# Altium schematic symbol library Resistor.SchLib: 141 symbols (part 1 of 4)
Pins are listed as number, name and electrical type; pins without a type are passive.

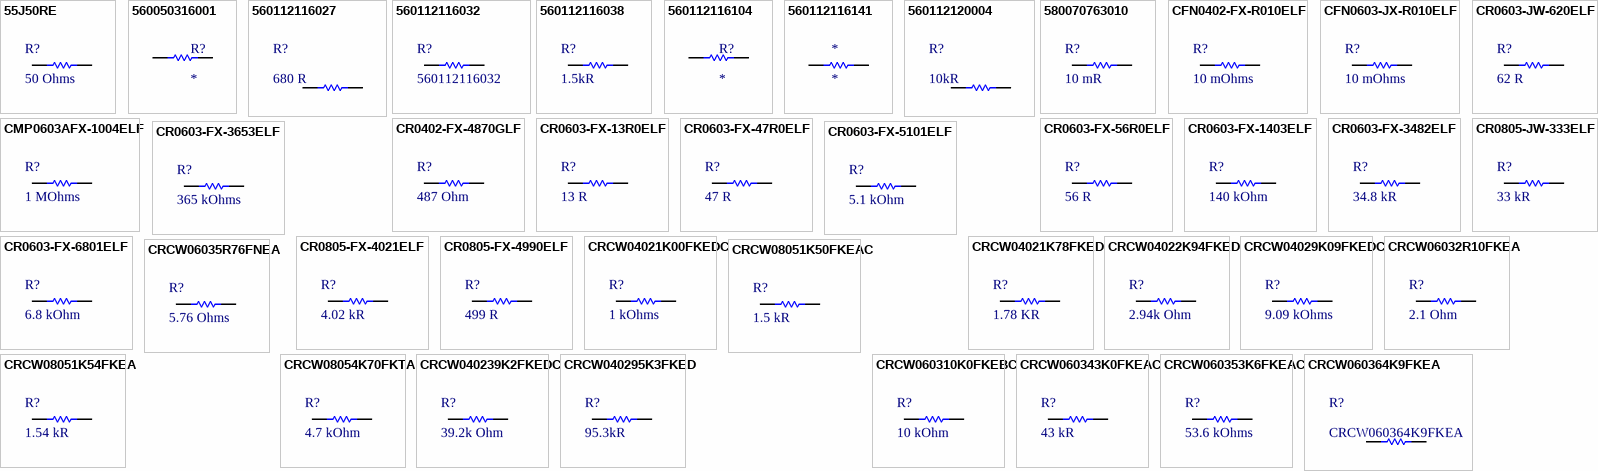
[diagram p0: symbols 55J50RE to CRCW060364K9FKEA]

## 55J50RE
designator R?, comment 50 Ohms
RES PTH 50 OHM 5% 10W Axial; Manufacturer: Ohmite; Part Number: 55J50RE; Temperature Coefficient: 50 PPM / C; Power Rating: 5W; Voltage Rating: 200V; Supplier 1: Mouser; Category: Wirewound Resistors - Through Hole; Price: 1= 0,76, 10= 0,66, 100= 0,459 (USD); Package / Case: Cut Tape; Value: 50 Ohms; Tolerance: 5%; Library Ref: Resistor; Resistor Type: Fixed; Size / Dimension: 21mm/8mm; Supplier Part Number 1: 588-55J50RE; ComponentLink1Description: Mouser Link; ComponentLink1URL: https://br.mouser.com/ProductDetail/Ohmite/55J50RE?qs=NgbZBzc1CyEo25lOn5E67g%3D%3D; ComponentLink2Description: Datasheet; ComponentLink2URL: https://br.mouser.com/datasheet/2/303/res_50-1265362.pdf
footprint RESISTOR_THROUGH_HOLE_2
pins: 1, 2

## 560050316001
designator R?
RES SMD 0.10 OHM 1% 1/4W 0603; Manufacturer: Wurth Electronics; Manufacturer Part Number: 560050316001; Supplier: Digikey; Supplier Part Number: 732-13797-1-ND; RoHS: No; Category: Chip SMD Resistors; Stock: 4204; Pricing: 1=0,54, 10=0,476, 50=0,424, 100=0,386, 250=0,302 (USD); ComponentLink1URL: http://katalog.we-online.de/pbs/datasheet/560050316001.pdf?src-supplier=Digikey; ComponentLink1Description: http://katalog.we-online.de/pbs/datasheet/560050316001.pdf?src-supplier=Digikey; ComponentLink2URL: https://datasheet.octopart.com/560050316001-Wurth-Elektronik-datasheet-168479358.pdf?src-supplier=Newark; ComponentLink2Description: https://datasheet.octopart.com/560050316001-Wurth-Elektronik-datasheet-168479358.pdf?src-supplier=Newark
footprint RESISTOR_0603
pins: 1, 2

## 560112116027
designator R?, comment 680 R
RES SMD 680 OHMS 5% 1/8W 0603; Manufacturer: Wurth Electronics; Manufacturer Part Number: 560112116027; Supplier: Newark; Supplier Part Number: 90AK5321; RoHS: No; Category: Chip SMD Resistors; Stock: 2500; Pricing: 10=0,094, 25=0,079, 50=0,064 (USD)
footprint RESISTOR_0603
pins: 1, 2

## 560112116032
designator R?
RES SMD 1.8K OHM 1% 1/10W 0603; Manufacturer: Wurth Electronics; Supplier: Mouser; Supplier Part Number: 710-560112116032; Part Number: 560112116032; RoHS: No; Category: Chip SMD Resistors; Stock: 9957; Pricing: 1=0,11, 10=0,102, 50=0,058, 100=0,058, 1000=0,039, 10000=0,03 (USD)
footprint RESISTOR_0603
pins: 1, 2

## 560112116038
designator R?, comment 1.5kR
RES SMD 1.5K OHM 1% 1/10W 0603; Manufacturer: Wurth Electronics; Part Number: 560112116038; Supplier: Mouser; Supplier Part Number: 710-560112116038; RoHS: No; Category: Chip SMD Resistors; Stock: 9892; Pricing: 1=0,11, 10=0,102, 50=0,058, 100=0,058, 1000=0,039, 10000=0,03 (USD); Value: 1.5kR
footprint RESISTOR_0603
pins: 1, 2

## 560112116104
designator R?
RES SMD 13K OHM 1% 1/10W 0603; Manufacturer: Wurth Electronics; Manufacturer Part Number: 560112116104; Supplier: Digikey; Supplier Part Number: 732-560112116104CT-ND; RoHS: No; Category: Chip SMD Resistors; Stock: 5000; Pricing: 1=0,1, 50=0,058, 500=0,039, 2500=0,03 (USD)
footprint RESISTOR_0603
pins: 1, 2

## 560112116141
designator *
RES SMD 4.3K OHM 1% 1/10W 0603; Manufacturer: Wurth Electronics; Manufacturer Part Number: 560112116141; Supplier: Digikey; Supplier Part Number: 732-560112116141CT-ND; RoHS: No; Category: Chip SMD Resistors; Stock: 4975; Pricing: 1=0,1, 50=0,058, 500=0,039, 2500=0,03 (USD)
footprint RESISTOR_0603
pins: 1, 2

## 560112120004
designator R?, comment 10kR
RES SMD 10kOHM 1% 1/4W 0805; Manufacturer: Wurth Electronics; Manufacturer Part Number: 560112120004; Supplier: Digikey; Supplier Part Number: 732-560112120004CT-ND; RoHS: No; Category: Chip SMD Resistors; Stock: 4672; Pricing: 1=0,13, 50=0,0712, 500=0,0477, 2500=0,0369 (USD)
footprint RESISTOR_0805
pins: 1, 2

## 580070763010
designator R?, comment 10 mR
RES SMD 10m Ohm 1% 2W 2512; Manufacturer: Wurth Elektronik; Temperature Coefficient: 100 PPM / C; Product Category: Current Sense Resistors - SMD; Value: 10 mR; Power Rating: 2 W; Tolerance: 1 %; Case Code - in: 2512; Case Code - mm: 6331; Minimum Operating Temperature:: - 55 C; Maximum Operating Temperature: + 155 C
footprint WSHM2818R0100FEA (Chip Resistor, 2-Leads, Body 7,10x4,60mm, IPC Medium Density)
footprint RES_WURTH_2512 (Chip Resistor, 2-Leads, Body 6,30x3,10mm, IPC Medium Density)
pins: 1, 2

## CFN0402-FX-R010ELF
designator R?, comment 10 mOhms
RES SMD 10m OHM 1% 1/4W 0402; Manufacturer: Bourns; Part Number: CFN0402-FX-R010ELF; Temperature Coefficient: 100 PPM / C; Power Rating: 1/4 W (250 mW); Supplier 1: Mouser; Category: Current Sense Resistors - SMD; Price: 1= 0,57, 10= 0,272, 100= 0,181 (USD); Package / Case: 0402 (1005 metric); Operating Temperature: -55C ~ +155C; Value: 10 mOhms; Tolerance: 1%; Voltage Rating: -; Library Ref: Resistor; Resistor Type: Fixed; Size / Dimension: 1mm x 0.5mm; Supplier Part Number 1: 652-CFN0402-FX-R010E; ComponentLink1Description: Mouser Link; ComponentLink1URL: https://br.mouser.com/ProductDetail/Bourns/CFN0402-FX-R010ELF?qs=iLbezkQI%252Bsjx0oxCU2UO7g%3D%3D; ComponentLink2Description: Datasheet; ComponentLink2URL: https://br.mouser.com/datasheet/2/54/cfn-1955410.pdf
footprint RESISTOR_0402
pins: 1, 2

## CFN0603-JX-R010ELF
designator R?, comment 10 mOhms
RES SMD 10m Ohms 5% 1/2W 0603; Manufacturer: Bourns; Part Number: CFN0603-JX-R010ELF; Tolerance: 1%; Temperature Coefficient: 100 PPM/C; Power Rating: 100 mW (1/10W); Voltage Rating: 75V; Supplier 1: Mouser; Category: Current Sense Resistors - SMD; Price: 1=0,39, 10=0,304, 100=0,128 (USD); Package / Case: 0603; Operating Temperature: - 55ºC ~ 155ºC; Value: 10 mOhms; Library Ref: Resistor; Resistor Type: Fixo; Size / Dimension: 3,2 mm L x  1,6 mm W x  0,5 mm H; Supplier Part Number 1: 652-CFN0603-JX-R010ELF; ComponentLink1Description: Mouser Link; ComponentLink1URL: https://br.mouser.com/ProductDetail/Bourns/CFN0603-JX-R010ELF?qs=sGAEpiMZZMvdGkrng054tx4c7YuULGmGVIzC8kOF4lpjbrLExPeakg%3D%3D; ComponentLink2Description: Datasheet Link; ComponentLink2URL: https://br.mouser.com/datasheet/2/54/cfn-1955410.pdf
footprint RESISTOR_0603
pins: 1, 2

## CMP0603AFX-1004ELF
designator R?, comment 1 MOhms
RES SMD 1M OHM 1% 1/4W 0603 TC100; Manufacturer: Bourns; Part Number: CMP0603AFX-1004ELF; Temperature Coefficient: 100 PPM / C; Power Rating: 250 mW (1/4 W); Voltage Rating: 75 V; Supplier 1: Bourns; Category: Thick Film Resistors; Package / Case: 0603; Operating Temperature: -55 to +155 °C; Value: 1 MOhms; Tolerance: 1%; Mouser Link: https://br.mouser.com/ProductDetail/Bourns/CMP0603AFX-1004ELF?qs=sGAEpiMZZMvdGkrng054twKDKoBh%252Bscn0Cfck9q6avmCcr%2FCUfL8cg%3D%3D; Datasheet: https://br.mouser.com/datasheet/2/54/cmp_a-1869326.pdf; Resistor Type: Thick Film Resistors; Size / Dimension: 1,6x0,8x0,4(mm); ComponentLink1Description: Mouser; ComponentLink1URL: https://br.mouser.com/ProductDetail/Bourns/CMP0603AFX-1004ELF?qs=sGAEpiMZZMvdGkrng054twKDKoBh%252Bscn0Cfck9q6avmCcr%2FCUfL8cg%3D%3D; ComponentLink2Description: Datasheet; ComponentLink2URL: https://br.mouser.com/datasheet/2/54/cmp_a-1869326.pdf
footprint RESISTOR_0603
pins: 1, 2

## CR0402-FX-4870GLF
designator R?, comment 487 Ohm
RES SMD 487 OHM 1% 1/16 W 0402; Manufacturer: Bourns; Part Number: CR0402-FX-4870GLF; Temperature Coefficient: 100 PPM/C; Power Rating: 1/16 W; Voltage Rating: 50 V; Library Control - Person that did the Last Update Footprint: Breno (Omega); Supplier 1: Mouser; Category: Thick Film Resistor; Price: 1 = 0.14, 10 = 0.058, 100 = 0.033(USD); Package / Case: 0402; Operating Temperature: -55°C ~ 155°C; Value: 487 Ohm; Tolerance: 1%; Library Ref: Resistor; Resistor Type: Fixo; Size / Dimension: 0.5mm x 1mm x 0.35mm; Supplier Part Number 1: 652-CR0402-FX4870GLF; Library Control - Person that did the Last Update Schematic: Breno (Omega); ComponentLink1Description: Mouser Link; ComponentLink1URL: https://br.mouser.com/ProductDetail/Bourns/CR0402-FX-4870GLF?qs=%2Fha2pyFadui8yxbHVz0QKuAN1WV%252BcTXMEkWPBdAvoazSjBPgZsW2cWgt0xqYQEMx; ComponentLink2Description: Datasheet; ComponentLink2URL: https://br.mouser.com/datasheet/2/54/cr-1858361.pdf
footprint RESISTOR_0402
pins: 1, 2

## CR0603-FX-13R0ELF
designator R?, comment 13 R
RES SMD 13 OHMS 1% 1/10W 0603; Manufacturer: Bourns; Part Number: CR0603-FX-13R0ELF; Temperature Coefficient: 100 PPM / C; Power Rating: 100 mW (1/10 W); Voltage Rating: 50 V; Library Control - Checked Footprint: Yes; Library Control - Person that Checked Footprint: Raquel; Supplier 1: Mouser; Category: Thick Film Resistors - SMD; Price: 1=0,10, 10=0,034, 100=0,017(USD); Package / Case: 0603 (1608 Metric); Operating Temperature: - 55°C ~ 155°C; Value: 13 R; Tolerance: 1 %; Library Ref: Resistor; Resistor Type: Fixo; Size / Dimension: 1,60 L x 0,80 W x 0,45 H; Supplier Part Number 1: 652-CR0603-FX-13R0ELF; Library Control - Checked Schematic: Yes; Library Control - Last Update: 12/10/2021; Library Control - Person that Checked Schematic: Raquel; ComponentLink1Description: Mouser Link; ComponentLink1URL: https://br.mouser.com/ProductDetail/Bourns/CR0603-FX-13R0ELF?qs=%2Fha2pyFadugVmr2gairtN0u0VcidQZ%252B4KivBBZASfBI4LKJiCJr4Bg%3D%3D; ComponentLink2Description: Datasheet; ComponentLink2URL: https://br.mouser.com/datasheet/2/54/crxxxxx-1858361.pdf
footprint RESISTOR_0603
pins: 1, 2

## CR0603-FX-47R0ELF
designator R?, comment 47 R
RES SMD 47 OHM 1% 1/10W 0603; Manufacturer: Bourns; Part Number: CR0603-FX-47R0ELF; Temperature Coefficient: 100 PPM / C; Power Rating: 100 mW (1/10 W); Voltage Rating: 50 V; Library Control - Checked Footprint: Yes; Library Control - Person that Checked Footprint: Nikaum; Library Control - Person that Checked Schematic: Guilherme; Library Control - Person that did the Last Update Footprint: Nicolas; Supplier 1: Mouser; Category: Thick Film Resistors; Price: 1=0,10, 10=0,019, 100=0,008 (USD); Package / Case: 0603 (1608 Metric); Operating Temperature: - 55°C ~ 155°C; Value: 47 R; Tolerance: 1 %; Library Ref: Resistor; Resistor Type: Fixo; Size / Dimension: 1,60 L x 0,80 W x 0,45 H; Supplier Part Number 1: 652-CR0603FX-47R0ELF; Library Control - Checked Schematic: Yes; Library Control - Last Update: 27/06/2021 20:37; Library Control - Person that did the Last Update Schematic: Nikaum; ComponentLink1Description: Mouser Link; ComponentLink1URL: https://br.mouser.com/ProductDetail/Bourns/CR0603-FX-47R0ELF?qs=0nF2VnfAjXlzDgnPATTkTA%3D%3D; ComponentLink2Description: Datasheet; ComponentLink2URL: https://br.mouser.com/datasheet/2/54/crxxxxx-1858361.pdf
footprint RESISTOR_0603
pins: 1, 2

## CR0603-FX-56R0ELF
designator R?, comment 56 R
RES SMD 56 OHMS 1% 1/10W 0603; Manufacturer: Bourns; Part Number: CR0603-FX-56R0ELF; Temperature Coefficient: 100 PPM / C; Power Rating: 100 mW (1/10 W); Voltage Rating: 50 V; Library Control - Checked Footprint: Yes; Library Control - Person that Checked Footprint: Nikaum; Library Control - Person that did the Last Update Footprint: Nicolas; Supplier 1: Mouser; Category: Thick Film Resistors - SMD; Price: 1=0,10, 10=0,019, 100=0,011(USD); Package / Case: 0603 (1608 Metric); Operating Temperature: - 55°C ~ 155°C; Value: 56 R; Tolerance: 1 %; Library Ref: Resistor; Resistor Type: Fixo; Size / Dimension: 1,60 L x 0,80 W x 0,45 H; Supplier Part Number 1: 652-CR0603FX-56R0ELF; Library Control - Checked Schematic: Yes; Library Control - Last Update: 27/06/2021 20:52; Library Control - Person that Checked Schematic: Nikaum; Library Control - Person that did the Last Update Schematic: Nikaum; ComponentLink1Description: Mouser Link; ComponentLink1URL: https://br.mouser.com/ProductDetail/Bourns/CR0603-FX-56R0ELF?qs=0nF2VnfAjXkVwSNglvrNkw%3D%3D; ComponentLink2Description: Datasheet; ComponentLink2URL: https://br.mouser.com/datasheet/2/54/crxxxxx-1858361.pdf
footprint RESISTOR_0603
pins: 1, 2

## CR0603-FX-1403ELF
designator R?, comment 140 kOhm
RES SMD 140 kOHM 1% 1/10W 0603; Manufacturer: Bourns; Part Number: CR0603-FX-1403ELF; Temperature Coefficient: 100 PPM / C; Power Rating: 125 mW (1/8 W); Voltage Rating: 50 V; Supplier 1: Mouser; Category: Thick Film Resistors - SMD; Price: 1=0,10, 10=0,036, 100=0,013 1000=0,008 (USD); Package / Case: 0603 (1608 Metric); Operating Temperature: - 55ºC ~ 155ºC; Value: 140 kOhm; Tolerance: 1 %; Library Ref: Resistor; Resistor Type: Fixo; Size / Dimension: 2 mm L x  1.25 mm W x  0.5 mm H; Supplier Part Number 1: 652-CR0603FX-1403ELF; ComponentLink1Description: Mouser Link; ComponentLink1URL: https://br.mouser.com/ProductDetail/Bourns/CR0603-FX-1403ELF?qs=sGAEpiMZZMtlubZbdhIBIJoX7P5Bll7agXTMqD6Yn9M%3D; ComponentLink2Description: Datasheet Link; ComponentLink2URL: https://br.mouser.com/datasheet/2/54/cr-1858361.pdf
footprint RESISTOR_0603
pins: 1, 2

## CR0603-FX-3482ELF
designator R?, comment 34.8 kR
RES SMD 34.8KOHM 1% 1/10W 0603; Manufacturer: Bourns; Part Number: CR0603-FX-3482ELF; Temperature Coefficient: 100 PPM / C; Power Rating: 100mW (1/10 W); Voltage Rating: 50 V; Library Control - Checked Footprint: Yes; Library Control - Person that Checked Footprint: Nikaum; Library Control - Person that did the Last Update Footprint: Nicolas; Supplier 1: Mouser; Category: Thick Film Resistors - SMD; Price: 1 = 0,10, 10 = 0,016, 100 = 0,009 (USD); Package / Case: 0603 (1608 metric); Operating Temperature: - 55 C ~155 C; Value: 34.8 kR; Tolerance: 1 %; Library Ref: Resistor; Resistor Type: Fixo; Size / Dimension: 1,60 L x 0,80 W x 0,45 H; Supplier Part Number 1: 652-CR0603FX-3482ELF; Library Control - Checked Schematic: Yes; Library Control - Last Update: 27/06/2021 21:03; Library Control - Person that Checked Schematic: Nikaum; Library Control - Person that did the Last Update Schematic: Nikaum; ComponentLink1Description: Mouser Link; ComponentLink1URL: https://br.mouser.com/ProductDetail/Bourns/CR0603-FX-3482ELF?qs=CCIlxZRRv7iML3EEjn8ktw==; ComponentLink2Description: Datasheet Link; ComponentLink2URL: https://br.mouser.com/datasheet/2/54/crxxxxx-1858361.pdf
footprint RESISTOR_0603
pins: 1, 2

## CR0603-FX-3653ELF
designator R?, comment 365 kOhms
RES SMD 365K OHM 1% 1/10W 0603; Manufacturer: BOURNS; Part Number: RC0201FR-07365KL; Power Rating: 100 mW (1/10 W); Voltage Rating: 50v; Library Control - Person that Checked Footprint: Raquel; Supplier 1: Mouser; Category: Thick Film Resistors - SMD; Price: 1= 0,10, 10= 0,034, 100= 0,017 (USD); Package / Case: 0603 (1608 metric); Operating Temperature: -55C ~ +125C; Value: 365 kOhms; Tolerance: 1%; Library Ref: Resistor; Resistor Type: Thick Film; Size / Dimension: 0.45mm x 1.6mm x 0.8mm (HxLxW); Supplier Part Number 1: 652-CR0603-FX-3653ELF; Library Control - Last Update: 12/10/2021; ComponentLink1Description: Mouser Link; ComponentLink1URL: https://br.mouser.com/ProductDetail/Bourns/CR0603-FX-3653ELF?qs=CCIlxZRRv7jw7wJdLGvO9Q%3D%3D; ComponentLink2Description: Datasheet; ComponentLink2URL: https://br.mouser.com/datasheet/2/54/crxxxxx-1858361.pdf
footprint RESISTOR_0603
pins: 1, 2

## CR0603-FX-5101ELF
designator R?, comment 5.1 kOhm
RES SMD 5.1 kOHM 1% 1/10W 0603; Manufacturer: Bourns; Part Number: CR0603-FX-5101ELF; Temperature Coefficient: 100 PPM / C; Power Rating: 100mW (1/10 W); Voltage Rating: 50V; Supplier 1: Mouser; Category: Thick Film Resistors - SMD; Price: 1 = 0,10, 10 = 0,032, 100 = 0,013 (USD); Package / Case: 0603 (1608 metric); Operating Temperature: - 55 C~155 C; Value: 5.1 kOhm; Tolerance: 1 %; Library Ref: Resistor; Resistor Type: Fixo; Size / Dimension: 1,60 L x 0,80 W x 0,45 H; Supplier Part Number 1: 652-CR0603FX-5101ELF; ComponentLink1Description: Mouser Link; ComponentLink1URL: https://br.mouser.com/ProductDetail/Bourns/CR0603-FX-5101ELF?qs=sGAEpiMZZMtlubZbdhIBIMinHFTiNSf6ytasqlOqOko%3D; ComponentLink2Description: Datasheet Link; ComponentLink2URL: https://br.mouser.com/datasheet/2/54/cr-1858361.pdf
footprint RESISTOR_0603
pins: 1, 2

## CR0603-FX-6801ELF
designator R?, comment 6.8 kOhm
RES SMD 6.8K OHM 1% 1/10W 0603; Manufacturer: Bourns; Part Number: CR0603-FX-6801ELF; Temperature Coefficient: 100ppm/°C; Power Rating: 100mW; Voltage Rating: 50V; Supplier 1: Mouser; Category: Chip SMD Resistors; Price: 1=0,10000, 10=0,01800, 100=0,00600 (USD); Package / Case: 0603 (1608 Metric); Operating Temperature: -55°C ~ 155°C; Value: 6.8 kOhm; Tolerance: 1%; Library Ref: Resistor; Resistor Type: Thick Film; Size / Dimension: 1.6 mm L x  0.8 mm W x  0.45 mm H; Supplier Part Number 1: 652-CR0603FX-6801ELF; ComponentLink1Description: Datasheet; ComponentLink1URL: https://br.mouser.com/datasheet/2/54/cr-1858361.pdf; ComponentLink2Description: Mouser Link; ComponentLink2URL: https://br.mouser.com/ProductDetail/Bourns/CR0603-FX-6801ELF?qs=sGAEpiMZZMtlubZbdhIBIMinHFTiNSf6XYwxKUI8ZAU%3D
footprint RESISTOR_0603
pins: 1, 2

## CR0603-JW-620ELF
designator R?, comment 62 R
RES SMD 62 OHM 5% 1/10W 0603; Manufacturer: Bourns; Part Number: CR0603-JW-620ELF; Temperature Coefficient: 200 PPM / C; Power Rating: 100mW (1/10 W); Voltage Rating: 50 V; Library Control - Checked Footprint: Yes; Library Control - Person that Checked Footprint: Nikaum; Library Control - Person that did the Last Update Footprint: Nicolas; Supplier 1: Mouser; Category: Thick Film Resistors - SMD; Price: 1 = 0,10, 10 = 0,014, 100 = 0,009 (USD); Package / Case: 0603 (1608 metric); Operating Temperature: - 55 C~155 C; Value: 62 R; Tolerance: 5 %; Library Ref: Resistor; Resistor Type: Fixo; Size / Dimension: 1,60 L x 0,80 W x 0,45 H; Supplier Part Number 1: 652-CR0603-JW-620ELF; Library Control - Checked Schematic: Yes; Library Control - Last Update: 27/06/2021 21:00; Library Control - Person that Checked Schematic: Nikaum; Library Control - Person that did the Last Update Schematic: Nikaum; ComponentLink1Description: Mouser Link; ComponentLink1URL: https://br.mouser.com/ProductDetail/Bourns/CR0603-JW-620ELF?qs=fr5M0h%252BG8GYj3p8lbTv0Tg==; ComponentLink2Description: Datasheet Link; ComponentLink2URL: https://br.mouser.com/datasheet/2/54/crxxxxx-1858361.pdf
footprint RESISTOR_0603
pins: 1, 2

## CR0805-FX-4021ELF
designator R?, comment 4.02 kR
RES SMD 4.02 K OHM 1% 1/8 W 0805; Manufacturer: Bourns; Part Number: CR0805-FX-4021ELF; Temperature Coefficient: 100 PPM / C; Power Rating: 125 mW (1/8 W); Voltage Rating: 150 V; Library Control - Checked Footprint: Yes; Library Control - Person that Checked Footprint: Nikaum; Library Control - Person that did the Last Update Footprint: Nicolas; Supplier 1: Mouser; Category: Thick Film Resistors - SMD; Price: 1=0,10, 10=0,024, 100=0,014 (USD); Package / Case: 0805 (2012 Metric); Operating Temperature: - 55°C ~ 155°C; Value: 4.02 kR; Tolerance: 1 %; Library Ref: Resistor; Resistor Type: Fixo; Size / Dimension: 2,00 L x 1,25 W x 0,50 H; Supplier Part Number 1: 652-CR0805FX-4021ELF; Library Control - Checked Schematic: Yes; Library Control - Last Update: 27/06/2021 20:55; Library Control - Person that Checked Schematic: Nikaum; Library Control - Person that did the Last Update Schematic: Nikaum; ComponentLink1Description: Mouser Link; ComponentLink1URL: https://br.mouser.com/ProductDetail/Bourns/CR0805-FX-4021ELF?qs=TYKCbaKwe1DapcPpjJ90lg%3D%3D; ComponentLink2Description: Datasheet; ComponentLink2URL: https://br.mouser.com/datasheet/2/54/crxxxxx-1858361.pdf
footprint RESISTOR_0805
pins: 1, 2

## CR0805-FX-4990ELF
designator R?, comment 499 R
RES SMD 499 OHM 1% 1/8W 0805; Manufacturer: Bourns; Part Number: CR0805-FX-4990ELF; Temperature Coefficient: 100 PPM / C; Power Rating: 125 mW (1/8 W); Voltage Rating: 150 V; Library Control - Checked Footprint: No; Library Control - Checked Schematic: Yes; Library Control - Person that Checked Schematic: Guilherme; Supplier 1: Mouser; Category: Thick Film Resistors - SMD; Price: 1=0,10 10=0,024, 100=0,014 (USD); Package / Case: 0805 (2012 Metric); Operating Temperature: - 55°C ~ 155°C; Value: 499 R; Tolerance: 1 %; Library Ref: Resistor; Resistor Type: Fixed; Size / Dimension: 2,00 L x 1,25 W x 0,50 H; Supplier Part Number 1: 652-CR0805FX-4990ELF; Library Control - Last Update: 26/06/2021 16:53; ComponentLink1Description: Mouser Link; ComponentLink1URL: https://br.mouser.com/ProductDetail/Bourns/CR0805-FX-4990ELF?qs=sGAEpiMZZMukHu%252BjC5l7YSNvqakVQFVliZhrfH2%252B8mU%3D; ComponentLink2Description: Datasheet; ComponentLink2URL: https://br.mouser.com/datasheet/2/54/crxxxxx-1858361.pdf
footprint RESISTOR_0805
pins: 1, 2

## CR0805-JW-333ELF
designator R?, comment 33 kR
RES SMD 33K OHM 5% 1/8W 0805; Manufacturer: Bourns; Part Number: CR0805-JW-333ELF; Temperature Coefficient: 200 PPM / C; Power Rating: 125 mW (1/8 W); Voltage Rating: 150 V; Library Control - Checked Footprint: Yes; Library Control - Person that Checked Footprint: Nikaum; Library Control - Person that did the Last Update Footprint: Nicolas; Supplier 1: Mouser; Category: Thick Film Resistors; Price: 1=0,10, 10=0,023, 100=0,013 (USD); Package / Case: 0805 (2012 Metric); Operating Temperature: - 55°C ~ 155°C; Value: 33 kR; Tolerance: 5 %; Library Ref: Resistor; Resistor Type: Fixo; Size / Dimension: 2,00 L x 1,25 W x 0,50 H; Supplier Part Number 1: 652-CR0805JW-333ELF; Library Control - Checked Schematic: Yes; Library Control - Last Update: 27/06/2021 20:54; Library Control - Person that Checked Schematic: Nikaum; Library Control - Person that did the Last Update Schematic: Nikaum; ComponentLink1Description: Mouser Link; ComponentLink1URL: https://br.mouser.com/ProductDetail/Bourns/CR0805-JW-333ELF?qs=%252BcBkmVQIZ2Q1P1gcG8tMAQ%3D%3D; ComponentLink2Description: Datasheet; ComponentLink2URL: https://br.mouser.com/datasheet/2/54/crxxxxx-1858361.pdf
footprint RESISTOR_0805
pins: 1, 2

## CRCW04021K00FKEDC
designator R?, comment 1 kOhms
RES SMD 1K OHM 1% 1/16W 0402; Manufacturer: Vishay; Part Number: CRCW04021K00FKEDC; Temperature Coefficient: 100 PPM / C; Power Rating: 62.5 mW (1/16 W); Voltage Rating: 50V; Library Control - Checked Footprint: Yes; Library Control - Person that Checked Footprint: Nícolas; Supplier 1: Mouser; Category: Thick Film Resistors - SMD; Price: 1 = 0.10, 10 = 0.033, 100 = 0.014 (USD); Package / Case: 0402 (1005 metric); Operating Temperature: -55C ~ +155C; Value: 1 kOhms; Tolerance: 1%; Library Ref: Resistor; Resistor Type: Thick FIlm; Size / Dimension: 0.35mm x 1mm x 0.5mm (HxLxW); Supplier Part Number 1: 71-CRCW04021K00FKEDC; Library Control - Checked Schematic: Yes; Library Control - Last Project that Used: -; Library Control - Last Update: 08/09/2021; Library Control - Person that Checked Schematic: Nícolas; Library Control - Person that did the Last Update Footprint: Nícolas; Library Control - Person that did the Last Update Schematic: Nícolas; ComponentLink1Description: Mouser Link; ComponentLink1URL: https://br.mouser.com/ProductDetail/Vishay-Dale/CRCW04021K00FKEDC?qs=E3Y5ESvWgWMj5mY%252BhDIyqg%3D%3D; ComponentLink2Description: Datasheet; ComponentLink2URL: https://br.mouser.com/datasheet/2/427/VISH_S_A0003599164_1-2569050.pdf
footprint RESISTOR_0402
pins: 1, 2

## CRCW04021K78FKED
designator R?, comment 1.78 KR
RES SMD 1.78K Ohms 1% 1/16W 0402; Manufacturer: Vishay; Part Number: CRCW04021K78FKED; Temperature Coefficient: 100 PPM / C; Power Rating: 62.5 mW (1/16 W); Voltage Rating: 50 V; Library Control - Checked Footprint: Guilherme; Library Control - Last Project that Used: Fuijin-MK1; Supplier 1: Mouser; Category: Thick Film Resistors - SMD; Price: 1=0,10, 10=0,042, 100=0,017 (USD); Package / Case: 0402 (1005 Metric); Operating Temperature: - 55ºC ~ 155ºC; Value: 1.78 KR; Tolerance: 1%; Library Ref: Resistor; Resistor Type: Fixo; Size / Dimension: 1 mm L x  0,5 mm W x  0,35 mm H; Supplier Part Number 1: 71-CRCW0402-1.78K-E3; Library Control - Checked Schematic: Guilherme; Library Control - Last Update: 31/10/21 17:08; Library Control - Person that Checked Footprint: Guilherme; Library Control - Person that Checked Schematic: Guilherme; Library Control - Person that did the Last Update Footprint: Guilherme; Library Control - Person that did the Last Update Schematic: Guilherme; ComponentLink1Description: Mouser Link; ComponentLink1URL: https://br.mouser.com/ProductDetail/Vishay-Dale/CRCW04021K78FKED?qs=YX%252BK5oaHNYopJc2s6qxVSA%3D%3D; ComponentLink2Description: Datasheet Link; ComponentLink2URL: https://www.vishay.com/doc?20035
footprint RESISTOR_1005
pins: 1, 2

## CRCW04022K94FKED
designator R?, comment 2.94k Ohm
RES SMD 2.94k OHM 1% 1/16 W 0402; Manufacturer: Vishay / Dale; Part Number: CRCW04022K94FKED; Temperature Coefficient: 100 PPM/C; Power Rating: 1/16 W; Voltage Rating: 50 V; Library Control - Person that did the Last Update Footprint: Breno (Omega); Supplier 1: Mouser; Category: Thick Film Resistor; Price: 1 = 0.10, 10 = 0.042, 100 = 0.017(USD); Package / Case: 0402; Operating Temperature: -55°C ~ 155°C; Value: 2.94k Ohm; Tolerance: 1%; Library Ref: Resistor; Resistor Type: Fixo; Size / Dimension: 0.5mm x 1mm x 0.35mm; Supplier Part Number 1: 71-CRCW0402-2.94K-E3; Library Control - Person that did the Last Update Schematic: Breno (Omega); ComponentLink1Description: Mouser Link; ComponentLink1URL: https://br.mouser.com/ProductDetail/Vishay-Dale/CRCW04022K94FKED?qs=hD42E%2F8yzjpGZRqjVZecEg%3D%3D; ComponentLink2Description: Datasheet; ComponentLink2URL: https://br.mouser.com/datasheet/2/427/dcrcwe3-1762152.pdf
footprint RESISTOR_0402
pins: 1, 2

## CRCW04029K09FKEDC
designator R?, comment 9.09 kOhms
RES SMD 9.09K Ohms 1% 1/16W 0402; Manufacturer: Vishay / Dale; Part Number: CRCW04029K09FKEDC; Temperature Coefficient: 100 PPM / C; Power Rating: 62.5 mW (1/16 W); Voltage Rating: 50V; Library Control - Person that Checked Footprint: Firme; Supplier 1: Mouser; Category: Thick Film Resistors - SMD; Price: 1= 0,10, 10= 0,137, 100= 0,034 (USD); Package / Case: 0402 (1005 metric); Operating Temperature: -55C ~ +155C; Tolerance: 1%; Library Ref: Resistor; Resistor Type: Thick FIlm; Size / Dimension: 0.35mm x 1mm x 0.5mm (HxLxW); Supplier Part Number 1: 71-CRCW04029K09FKEDC; Library Control - Last Update: 16/08/2022 15:22; Library Control - Person that Checked Schematic: Firme; Library Control - Person that did the Last Update Footprint: Firme; Library Control - Person that did the Last Update Schematic: Firme; ComponentLink1Description: Mouser Link; ComponentLink1URL: https://br.mouser.com/ProductDetail/Vishay-Dale/CRCW04029K09FKEDC?qs=E3Y5ESvWgWPGRVga7cm29A%3D%3D; ComponentLink2Description: Datasheet; ComponentLink2URL: https://br.mouser.com/datasheet/2/427/crcwce3-1762584.pdf; Value: 9.09 kOhms
footprint RESISTOR_0402
pins: 1, 2

## CRCW06032R10FKEA
designator R?, comment 2.1 Ohm
RES SMD 2.1 OHM 1% 1/10 W 0603; Manufacturer: Vishay / Dale; Part Number: CRCW06032R10FKEA; Temperature Coefficient: 100 PPM/C; Power Rating: 1/10 W; Voltage Rating: 75V; Library Control - Person that did the Last Update Footprint: Breno (Omega); Supplier 1: Mouser; Category: Thick Film Resistor; Price: 1 = 0.12, 10 = 0.058, 100 = 0.026(USD); Package / Case: 0603; Operating Temperature: -55°C ~ 155°C; Value: 2.1 Ohm; Tolerance: 1%; Library Ref: Resistor; Resistor Type: Fixo; Size / Dimension: 0.85mm x 1.55mm x 0.45mm; Supplier Part Number 1: 71-CRCW06032R10FKEA; Library Control - Person that did the Last Update Schematic: Breno (Omega); ComponentLink1Description: Mouser Link; ComponentLink1URL: https://br.mouser.com/ProductDetail/Vishay-Dale/CRCW06032R10FKEA?qs=DyUWGjl%252BcVuVZspRNQ%252BnNQ%3D%3D; ComponentLink2Description: Datasheet; ComponentLink2URL: https://br.mouser.com/datasheet/2/427/dcrcwe3-1762152.pdf
footprint RESISTOR_0603
pins: 1, 2

## CRCW06035R76FNEA
designator R?, comment 5.76 Ohms
RES SMD 5.76ohms 1% 1/10watt 0603; Manufacturer: Vishay / Dale; Part Number: CRCW06035R76FNEA; Temperature Coefficient: 200 PPM / C; Power Rating: 100mW (1/10 W); Voltage Rating: 75 V; Library Control - Checked Footprint: Yes; Library Control - Person that Checked Footprint: Firme; Supplier 1: Mouser; Category: Thick Film Resistors - SMD; Price: 1 = 0,21, 10 = 0,04, 100 = 0,033(USD); Package / Case: 0603 (1608 metric); Operating Temperature: - 55 C~155 C; Value: 5.76 Ohms; Tolerance: 1 %; Library Ref: Resistor; Resistor Type: Fixo; Size / Dimension: 1,55 L x 0,85 W x 0,45 H; Supplier Part Number 1: 71-CRCW06035R76FNEA; Library Control - Checked Schematic: Yes; Library Control - Last Update: 16/08/2022 15;20; Library Control - Person that Checked Schematic: Firme; Library Control - Person that did the Last Update Footprint: Firme; Library Control - Person that did the Last Update Schematic: Firme; ComponentLink1Description: Mouser Link; ComponentLink1URL: https://br.mouser.com/ProductDetail/Vishay-Dale/CRCW06035R76FNEA?qs=P6ImCWcZKGAhuQi1wdyD9w%3D%3D; ComponentLink2Description: Datasheet Link; ComponentLink2URL: https://br.mouser.com/datasheet/2/427/dcrcwe3-1762152.pdf
footprint RESISTOR_0603
pins: 1, 2

## CRCW08051K50FKEAC
designator R?, comment 1.5 kR
RES SMD 1.5K OHM 1% 1/8W 0805; Manufacturer: Vishay / Dale; Part Number: CRCW08051K50FKEAC; Temperature Coefficient: 100 PPM / C; Power Rating: 125 mW (1/8 W); Voltage Rating: 150 V; Library Control - Checked Footprint: Yes; Library Control - Person that Checked Footprint: Nikaum; Library Control - Person that did the Last Update Footprint: Nicolas; Supplier 1: Mouser; Category: Thick Film Resistors - SMD; Price: 1=0,10, 10=0,059, 100=0,024 (USD); Package / Case: 0805 (2012 Metric); Operating Temperature: -55 C ~ 155 C; Value: 1.5 kR; Tolerance: 1 %; Library Ref: Resistor; Resistor Type: Fixo; Size / Dimension: 2,00 L x 1,25 W x 0,45 H; Supplier Part Number 1: 71-CRCW08051K50FKEAC; Library Control - Checked Schematic: Yes; Library Control - Last Update: 27/06/2021 20:45; Library Control - Person that Checked Schematic: Nikaum; Library Control - Person that did the Last Update Schematic: Nikaum; ComponentLink1Description: Mouser Link; ComponentLink1URL: https://br.mouser.com/ProductDetail/Vishay-Dale/CRCW08051K50FKEAC?qs=E3Y5ESvWgWMwo6R2oqPQ9Q%3D%3D; ComponentLink2Description: Datasheet; ComponentLink2URL: https://br.mouser.com/datasheet/2/427/crcwce3-1762584.pdf
footprint RESISTOR_0805
pins: 1, 2

## CRCW08051K54FKEA
designator R?, comment 1.54 kR
RES SMD 1.54K OHM 1% 1/8W 0805; Manufacturer: Vishay / Dale; Part Number: CRCW08051K54FKEA; Temperature Coefficient: 100 PPM / C; Power Rating: 125mW (1/8 W); Voltage Rating: 150 V; Library Control - Checked Footprint: Yes; Library Control - Person that Checked Footprint: Nikaum; Library Control - Person that did the Last Update Footprint: Nicolas; Supplier 1: Mouser; Category: Thick Film Resistors - SMD; Price: 1 = 0,18, 10 = 0,065, 100 = 0,027 (USD); Package / Case: 0805 (2012 metric); Operating Temperature: - 55 C~155 C; Value: 1.54 kR; Tolerance: 1 %; Library Ref: Resistor; Resistor Type: Fixo; Size / Dimension: 2,00 L x 1,25 W x 0,45 H; Supplier Part Number 1: 71-CRCW08051K54FKEA; Library Control - Checked Schematic: Yes; Library Control - Last Update: 27/06/2021 21:31; Library Control - Person that Checked Schematic: Nikaum; Library Control - Person that did the Last Update Schematic: Nikaum; ComponentLink1Description: Mouser Link; ComponentLink1URL: https://br.mouser.com/ProductDetail/Vishay-Dale/CRCW08051K54FKEA?qs=1CkV0QOCgMpi10m9FUA8%2Fw%3D%3D; ComponentLink2Description: Datasheet Link; ComponentLink2URL: https://br.mouser.com/datasheet/2/427/dcrcwe3-1762152.pdf
footprint RESISTOR_0805
pins: 1, 2

## CRCW08054K70FKTA
designator R?, comment 4.7 kOhm
RES SMD 4.7 kOhm 1% 1/8W 0805; Manufacturer: Yageo; Part Number: CRCW08054K70FKTA; Temperature Coefficient: 100 PPM / C; Power Rating: 125 mW (1/8 W); Voltage Rating: 150 V; Supplier 1: Mouser; Category: Thick Film Resistors - SMD; Price: 1=0,1, 10=0,04, 100=0,016 (USD); Package / Case: 0805 (2012 Metric); Operating Temperature: - 55ºC ~ 155ºC; Value: 4.7 kOhm; Tolerance: 1 %; Library Ref: Resistor; Resistor Type: Fixo; Size / Dimension: 2 mm L x  1.25 mm W x  0.5 mm H; Supplier Part Number 1: 71-CRCW0805-4.7K; ComponentLink1Description: Mouser Link; ComponentLink1URL: https://br.mouser.com/ProductDetail/Vishay-Dale/CRCW08054K70FKTA?qs=4eNa8160l8XON3mJLdir2A%3D%3D; ComponentLink2Description: Datasheet Link; ComponentLink2URL: https://br.mouser.com/datasheet/2/427/dcrcw-1762150.pdf
footprint RESISTOR_0805
pins: 1, 2

## CRCW040239K2FKEDC
designator R?, comment 39.2k Ohm
RES SMD 39.2k OHM 1% 1/16 W 0402; Manufacturer: Vishay / Dale; Part Number: CRCW040239K2FKEDC; Temperature Coefficient: 100 PPM/C; Power Rating: 1/16 W; Voltage Rating: 50 V; Library Control - Person that did the Last Update Footprint: Breno (Omega); Supplier 1: Mouser; Category: Thick Film Resistor; Price: 1 = 0.10, 10 = 0.034, 100 = 0.015(USD); Package / Case: 0402; Operating Temperature: -55°C ~ 155°C; Value: 39.2k Ohm; Tolerance: 1%; Library Ref: Resistor; Resistor Type: Fixo; Size / Dimension: 0.5mm x 1mm x 0.35mm; Supplier Part Number 1: 71-CRCW040239K2FKEDC; Library Control - Person that did the Last Update Schematic: Breno (Omega); ComponentLink1Description: Mouser Link; ComponentLink1URL: https://br.mouser.com/ProductDetail/Vishay-Dale/CRCW040239K2FKEDC?qs=E3Y5ESvWgWPQuNj24ObMug%3D%3D; ComponentLink2Description: Datasheet; ComponentLink2URL: https://br.mouser.com/datasheet/2/427/crcwce3-1762584.pdf
footprint RESISTOR_0402
pins: 1, 2

## CRCW040295K3FKED
designator R?, comment 95.3kR
RES SMD 95.3K OHM 1% 1/16W 0402; Manufacturer: Vishay; Part Number: CRCW040295K3FKED; Temperature Coefficient: 100 PPM / C; Power Rating: 62,5mW (1/16 W); Voltage Rating: 50V; Library Control - Person that did the last Update Schematic: Marcos; Supplier 1: Mouser; Category: Thick Film Resistors - SMD; Price: 1 = 0,11, 10=0,04, 100=0,016, 1000=0,008 (USD); Package / Case: 0402 (1005 Metric); Operating Temperature: -55 C ~ 155 C; Value: 95.3kR; Tolerance: 1 %; Library Ref: Resistor; Resistor Type: Fixo; Size / Dimension: 1 L x 0,5 W x 0,35 H; Supplier Part Number 1: 71-CRCW0402-95.3K-E3; Library Control - Checked Footprint: *; Library Control - Checked Schematic: *; Library Control - Last Project that Used: *; Library Control - Last Update: 13/07/21 22:10; Library Control - Person that Checked Footprint: *; Library Control - Person that Checked Schematic: *; Library Control - Person that did the last Update Footprint: Marcos; ComponentLink1Description: Mouser Link; ComponentLink1URL: https://www.mouser.com/ProductDetail/Vishay-Dale/CRCW040295K3FKED?qs=lxmYmG9KtX%2FBpXlMXoZLjA%3D%3D; ComponentLink2Description: Datasheet Link; ComponentLink2URL: https://www.mouser.com/datasheet/2/427/dcrcwe3-1762152.pdf
footprint RESISTOR_0402
pins: 1, 2

## CRCW060310K0FKEBC
designator R?, comment 10 kOhm
RES SMD 10 kOHM 1% 1/10W 0603; Manufacturer: Vishay; Part Number: CRCW060310K0FKEBC; Temperature Coefficient: 100 PPM / C; Power Rating: 100mW (1/10 W); Voltage Rating: 75 V; Supplier 1: Mouser; Category: Thick Film Resistors - SMD; Price: 1 = 0,10, 10 = 0,032, 100 = 0,013 (USD); Package / Case: 0603 (1608 metric); Operating Temperature: - 55 C~155 C; Value: 10 kOhm; Tolerance: 1 %; Library Ref: Resistor; Resistor Type: Fixo; Size / Dimension: 1,60 L x 0,80 W x 0,45 H; Supplier Part Number 1: 71-CRCW060310K0FKEBC; ComponentLink1Description: Mouser Link; ComponentLink1URL: https://br.mouser.com/ProductDetail/Vishay-Dale/CRCW060310K0FKEBC?qs=wd5RIQLrsJiqANp9xmDb7A%3D%3D; ComponentLink2Description: Datasheet Link; ComponentLink2URL: https://br.mouser.com/datasheet/2/427/crcwce3-1762584.pdf
footprint RESISTOR_0603
pins: 1, 2

## CRCW060343K0FKEAC
designator R?, comment 43 kR
RES SMD 43K OHM 1% 1/10W 0603; Manufacturer: Vishay / Dale; Part Number: CRCW060343K0FKEAC; Temperature Coefficient: 100 PPM / C; Power Rating: 100mW (1/10 W); Voltage Rating: 75 V; Library Control - Checked Footprint: Yes; Library Control - Person that Checked Footprint: Nikaum; Library Control - Person that did the Last Update Footprint: Nicolas; Supplier 1: Mouser; Category: Thick Film Resistors - SMD; Price: 1 = 0,16, 10 = 0,061, 100 = 0,035 (USD); Package / Case: 0603 (1608 metric); Operating Temperature: - 55 C~155 C; Value: 43 kR; Tolerance: 1 %; Library Ref: Resistor; Resistor Type: Fixo; Size / Dimension: 1,55 L x 0,85 W x 0,45 H; Supplier Part Number 1: 71-CRCW060343K0FKEAC; Library Control - Checked Schematic: Yes; Library Control - Last Update: 27/06/2021 21:36; Library Control - Person that Checked Schematic: Nikaum; Library Control - Person that did the Last Update Schematic: Nikaum; ComponentLink1Description: Mouser Link; ComponentLink1URL: https://br.mouser.com/ProductDetail/Vishay-Dale/CRCW060343K0FKEAC?qs=E3Y5ESvWgWO%252BJlD7L0HNPQ%3D%3D; ComponentLink2Description: Datasheet Link; ComponentLink2URL: https://br.mouser.com/datasheet/2/427/crcwce3-1762584.pdf
footprint RESISTOR_0603
pins: 1, 2

## CRCW060353K6FKEAC
designator R?, comment 53.6 kOhms
RES SMD 53.6 kOhms 1% 1/10W 0603; Manufacturer: Yageo; Part Number: CRCW060353K6FKEAC; Temperature Coefficient: 100 PPM/C; Power Rating: 100 mW (1/10W); Voltage Rating: 75V; Supplier 1: Mouser; Category: Current Sense Resistors - SMD; Price: 1=0,39, 10=0,304, 100=0,128 (USD); Package / Case: 0603; Operating Temperature: - 55ºC ~ 155ºC; Value: 53.6 kOhms; Tolerance: 1%; Library Ref: Resistor; Resistor Type: Fixo; Size / Dimension: 3,2 mm L x  1,6 mm W x  0,5 mm H; Supplier Part Number 1: 71-CRCW060353K6FKEAC; ComponentLink1Description: Mouser Link; ComponentLink1URL: https://br.mouser.com/ProductDetail/Vishay-Dale/CRCW060353K6FKEAC?qs=sGAEpiMZZMtlubZbdhIBIIZe04wfiaJWQwP6f7HEpLE%3D; ComponentLink2Description: Datasheet Link; ComponentLink2URL: https://br.mouser.com/datasheet/2/427/crcwce3-1762584.pdf
footprint RESISTOR_0603
pins: 1, 2

## CRCW060364K9FKEA
designator R?
RES SMD 64.9K OHM 1% 1/10W 0603; Manufacturer: Vishay; Power: 100mW; Rated Temperature: 70°C; Value: 64.9kR; Temperature Coefficient: 100ppm/°C; Working Voltage: 75V; Package Height: 0.45mm; Package Length: 1.55mm; Package Width: 0.85mm; Reference Standard: AEC-Q200; Supplier: Mouser; Supplier Part Number: 71-CRCW0603-64.9K-E3; Part Number: CRCW060364K9FKEA; RoHS: Yes; Category: Chip SMD Resistors; Stock: 4750; Pricing: 1=0,1, 10=0,02, 50=0,02, 100=0,012, 1000=0,009, 10000=0,007 (USD); Mounting Technology: Surface Mount; Pins: 2; Package Shape: Rectangular; Case/Package: 0603; Terminal Finish: Nickel; Min Operating Temperature: -55°C; Max Operating Temperature: 155°C; Tolerance: 1%; JESD-609 Code: e3; Resistor Type: FIXED RESISTOR; Construction: Chip; Packaging: Tape and Reel; Technology: METAL GLAZE/THICK FILM; Termination: Wraparound; Reach SVHC Compliant: Yes; RoHS Compliant: Yes; ComponentLink1URL: https://datasheet.ciiva.com:443/pdfs/VipMasterIC/IC/VISH/VISH-S-A0007266705/VISH-S-A0007266705-1.pdf?src-supplier=IHS+Markit; ComponentLink1Description: https://datasheet.ciiva.com:443/pdfs/VipMasterIC/IC/VISH/VISH-S-A0007266705/VISH-S-A0007266705-1.pdf?src-supplier=IHS+Markit; ComponentLink2URL: https://datasheet.ciiva.com/11809/0900766b80d98afc-11809903.pdf?src-supplier=Rs; ComponentLink2Description: https://datasheet.ciiva.com/11809/0900766b80d98afc-11809903.pdf?src-supplier=Rs; ComponentLink3URL: https://datasheet.ciiva.com/3257/dcrcwe3-3257814.pdf?src-supplier=Avnet; ComponentLink3Description: https://datasheet.ciiva.com/3257/dcrcwe3-3257814.pdf?src-supplier=Avnet; ComponentLink4URL: https://datasheet.ciiva.com/3257/dcrcwe3-3257815.pdf?src-supplier=Avnet; ComponentLink4Description: https://datasheet.ciiva.com/3257/dcrcwe3-3257815.pdf?src-supplier=Avnet; ComponentLink5URL: https://datasheet.ciiva.com/5544/dcrcwe3-109170-5544703.pdf?src-supplier=Mouser; ComponentLink5Description: https://datasheet.ciiva.com/5544/dcrcwe3-109170-5544703.pdf?src-supplier=Mouser; ComponentLink6URL: https://datasheet.ciiva.com/22674/1847332-22674603.pdf?src-supplier=Element14; ComponentLink6Description: https://datasheet.ciiva.com/22674/1847332-22674603.pdf?src-supplier=Element14; ComponentLink7URL: https://datasheet.ciiva.com/22869/70201119-22869613.pdf?src-supplier=Allied+Electronics; ComponentLink7Description: https://datasheet.ciiva.com/22869/70201119-22869613.pdf?src-supplier=Allied+Electronics; ComponentLink8URL: https://datasheet.ciiva.com/7816/1697337-7816060.pdf?src-supplier=Element14; ComponentLink8Description: https://datasheet.ciiva.com/7816/1697337-7816060.pdf?src-supplier=Element14; ComponentLink9URL: https://datasheet.ciiva.com/7816/1697337-7816061.pdf?src-supplier=Element14; ComponentLink9Description: https://datasheet.ciiva.com/7816/1697337-7816061.pdf?src-supplier=Element14; ComponentLink10URL: https://datasheet.ciiva.com/16784/70201119-16784535.pdf?src-supplier=Allied+Electronics; ComponentLink10Description: https://datasheet.ciiva.com/16784/70201119-16784535.pdf?src-supplier=Allied+Electronics
footprint RESISTOR_0603
pins: 1, 2

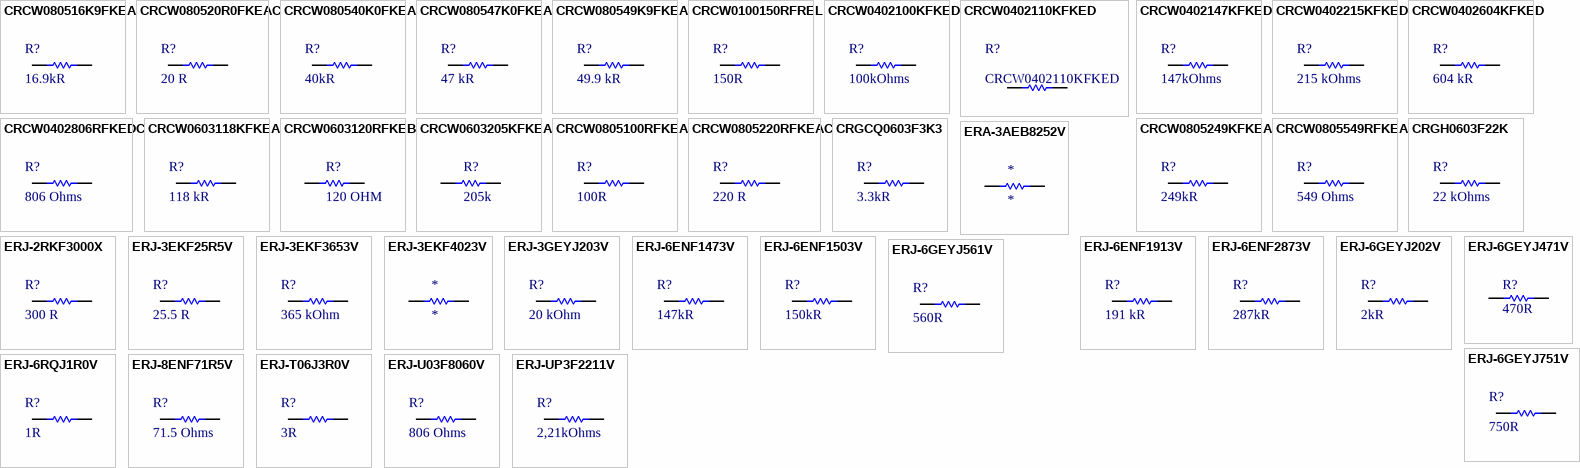
[diagram p1: symbols CRCW080516K9FKEA to ERJ-UP3F2211V]

## CRCW080516K9FKEA
designator R?, comment 16.9kR
RES SMD 16.9K OHM 1% 1/10W 0805; Manufacturer: Vishay / Dale; Part Number: CRCW080516K9FKEA; Temperature Coefficient: 100 PPM / C; Power Rating: 125 mW (1/8 W); Voltage Rating: 150 V; Library Control - Checked Footprint: No; Library Control - Checked Schematic: Yes; Library Control - Person that Checked Schematic: Marcos; Library Control - Person that did the Last Update Footprint: Dalarme; Supplier 1: Mouser; Category: Thick Film Resistors - SMD; Price: 1=0,18, 10=0,065, 100=0,027 1000=0,012 (USD); Package / Case: 0805 (2012 Metric); Operating Temperature: - 55ºC ~ 155ºC; Value: 16.9kR; Tolerance: 1 %; Library Ref: Resistor; Resistor Type: Fixo; Size / Dimension: 2 mm L x  1.25 mm W x  0.45 mm H; Supplier Part Number 1: 71-CRCW0805-16.9K-E3; Library Control - Last Update: 21/06/21 14:54; Library Control - Person that did the Last Update Schematic: Marcos; ComponentLink1Description: Mouser Link; ComponentLink1URL: https://www.mouser.com/ProductDetail/Vishay-Dale/CRCW080516K9FKEA?qs=%2Fha2pyFadui6t5gBae62oeDcmSi8Npe9qfAmiPVvEe7d6vlcVoXBceR9W5GwBAP0; ComponentLink2Description: Datasheet Link; ComponentLink2URL: https://www.mouser.com/datasheet/2/427/dcrcwe3-1762152.pdf
footprint RESISTOR_0805
pins: 1, 2

## CRCW080520R0FKEAC
designator R?, comment 20 R
RES SMD 20 OHM 1% 1/8W 0805; Manufacturer: Vishay / Dale; Part Number: CRCW080520R0FKEAC; Temperature Coefficient: 100 PPM / C; Power Rating: 125mW (1/8 W); Voltage Rating: 150 V; Library Control - Checked Footprint: Yes; Library Control - Person that Checked Footprint: Nikaum; Library Control - Person that did the Last Update Footprint: Nicolas; Supplier 1: Mouser; Category: Thick Film Resistors - SMD; Price: 1 = 0,10, 10 = 0,059, 100 = 0,024 (USD); Package / Case: 0805 (2012 metric); Operating Temperature: - 55 C~155 C; Value: 20 R; Tolerance: 1 %; Library Ref: Resistor; Resistor Type: Fixo; Size / Dimension: 2,00 L x 1,25 W x 0,50 H; Supplier Part Number 1: 71-CRCW080520R0FKEAC; Library Control - Checked Schematic: Yes; Library Control - Last Update: 27/06/2021 21:18; Library Control - Person that Checked Schematic: Nikaum; Library Control - Person that did the Last Update Schematic: Nikaum; ComponentLink1Description: Mouser Link; ComponentLink1URL: https://br.mouser.com/ProductDetail/Vishay-Dale/CRCW080520R0FKEAC?qs=E3Y5ESvWgWMLQrkmx3wlWA%3D%3D; ComponentLink2Description: Datasheet Link; ComponentLink2URL: https://br.mouser.com/datasheet/2/427/crcwce3-1762584.pdf
footprint RESISTOR_0805
pins: 1, 2

## CRCW080540K0FKEA
designator R?, comment 40kR
RES SMD 40K OHM 1% 1/8W 0805; Manufacturer: Vishay / Dale; Part Number: CRCW080540K0FKEA; Temperature Coefficient: 100 PPM / C; Power Rating: 125 mW (1/8 W); Voltage Rating: 150 V; Library Control - Checked Footprint: Yes; Library Control - Person that Checked Footprint: Nikaum; Library Control - Person that Checked Schematic: Guilherme; Library Control - Person that did the Last Update Footprint: Dalarme; Supplier 1: Mouser; Category: Thick Film Resistors - SMD; Price: 1=0,18, 10=0,065, 100=0,027 (USD); Package / Case: 0805 (2012 Metric); Operating Temperature: - 55ºC ~ 155ºC; Value: 40kR; Tolerance: 1 %; Library Ref: Resistor; Resistor Type: FIxed; Size / Dimension: 2 mm L x  1.25 mm W x  0.45 mm H; Supplier Part Number 1: 71-CRCW080540K0FKEA; Library Control - Checked Schematic: Yes; Library Control - Last Update: 27/06/2021 20:24; Library Control - Person that did the Last Update Schematic: Dalarme; ComponentLink1Description: Mouser Link; ComponentLink1URL: https://br.mouser.com/ProductDetail/Vishay-Dale/CRCW080540K0FKEA?qs=%2Fha2pyFadui6t5gBae62obH1we%2FwEWYF0IgPJkUjG77TW2yL4eZJ9lty8AWRnjVo; ComponentLink2Description: Datasheet; ComponentLink2URL: https://br.mouser.com/datasheet/2/427/dcrcwe3-1762152.pdf
footprint RESISTOR_0805
pins: 1, 2

## CRCW080547K0FKEA
designator R?, comment 47 kR
RES SMD 47KOHMS 1% 1/8W 0805; Manufacturer: Vishay / Dale; Part Number: CRCW080547K0FKEA; Temperature Coefficient: 100 PPM / C; Power Rating: 125 mW(1/8 W); Voltage Rating: 150 V; Library Control - Checked Footprint: Yes; Library Control - Person that Checked Footprint: Nikaum; Library Control - Person that Checked Schematic: Guilherme; Library Control - Person that did the Last Update Footprint: Dalarme; Supplier 1: Mouser; Category: Thick Film Resistors - SMD; Price: 1 = 0,18, 10 = 0,065, 100 = 0,027 (USD); Package / Case: 0805 (2012 Metric); Operating Temperature: - 55°C ~ 155°C; Value: 47 kR; Tolerance: 1 %; Library Ref: Resistor; Resistor Type: Fixed; Size / Dimension: 2,00 L x 1,25 W x 0,45 H; Supplier Part Number 1: 71-CRCW0805-47K-E3; Library Control - Checked Schematic: Yes; Library Control - Last Update: 27/06/2021 20:31; Library Control - Person that did the Last Update Schematic: Nikaum; ComponentLink1Description: Mouser Link; ComponentLink1URL: https://br.mouser.com/ProductDetail/Vishay-Dale/CRCW080547K0FKEA?qs=sGAEpiMZZMu61qfTUdNhG2DpbjADlD3GmUgUonkEHPY%3D; ComponentLink2Description: Datasheet; ComponentLink2URL: https://br.mouser.com/datasheet/2/427/dcrcwe3-1762152.pdf
footprint RESISTOR_0805
pins: 1, 2

## CRCW080549K9FKEA
designator R?, comment 49.9 kR
RES SMD 49.9K OHM 1% 1/8W 0805; Manufacturer: Vishay / Dale; Part Number: CRCW080549K9FKEA; Temperature Coefficient: 100 PPM / C; Power Rating: 125mW (1/8 W); Voltage Rating: 150 V; Library Control - Checked Footprint: Yes; Library Control - Person that Checked Footprint: Nikum; Library Control - Person that Checked Schematic: Nikaum; Library Control - Person that did the Last Update Footprint: Nicolas; Supplier 1: Mouser; Category: Thick Film Resistors - SMD; Price: 1 = 0,18, 10 = 0,065, 100 = 0,027 (USD); Package / Case: 0805 (2012 metric); Operating Temperature: - 55 C~155 C; Value: 49.9 kR; Tolerance: 1 %; Library Ref: Resistor; Resistor Type: Fixo; Size / Dimension: 2,00 L x 1,25 W x 0,45 H; Supplier Part Number 1: 71-CRCW0805-49.9K-E3; Library Control - Checked Schematic: Yes; Library Control - Last Update: 27/06/2021 21:29; Library Control - Person that did the Last Update Schematic: Nikaum; ComponentLink1Description: Mouser Link; ComponentLink1URL: https://br.mouser.com/ProductDetail/Vishay-Dale/CRCW080549K9FKEA?qs=kkyyugUlSrM78XYIvV9NZQ%3D%3D; ComponentLink2Description: Datasheet Link; ComponentLink2URL: https://br.mouser.com/datasheet/2/427/dcrcwe3-1762152.pdf
footprint RESISTOR_0805
pins: 1, 2

## CRCW0100150RFREL
designator R?, comment 150R
RES SMD 150 OHM 1% 1/32W 0402; Manufacturer: Vishay; Part Number: CRCW0100150RFREL; Temperature Coefficient: 250 PPM / C; Power Rating: 30 mW (1/32 W); Voltage Rating: 15 V; Library Control - Checked Footprint: Yes; Library Control - Person that Checked Footprint: Guilherme; Supplier 1: Mouser; Category: Thick Film Resistors - SMD; Price: 1=0,19, 10=0,084, 100=0,062 (USD); Package / Case: 71-CRCW0100150RFREL; Operating Temperature: - 55ºC ~ 125ºC; Value: 150R; Tolerance: 1 %; Library Ref: Resistor; Resistor Type: Fixed; Size / Dimension: 0.4 mm L x  0.2 mm W x  0.13 mm H; Supplier Part Number 1: 71-CRCW0100150RFREL; Library Control - Checked Schematic: Yes; Library Control - Last Update: 14/09/2021 14:39; Library Control - Person that Checked Schematic: Guilherme; Library Control - Person that did the Last Update Footprint: Guilherme; Library Control - Person that did the Last Update Schematic: Guilherme; ComponentLink1Description: Mouser Link; ComponentLink1URL: https://br.mouser.com/ProductDetail/Vishay-Dale/CRCW0100150RFREL?qs=sGAEpiMZZMtlubZbdhIBIMHZ5gvv1VGt%2FDJwZ3JI3CA%3D; ComponentLink2Description: Datasheet; ComponentLink2URL: https://br.mouser.com/datasheet/2/427/VISH_S_A0011831033_1-2572231.pdf
footprint RESISTOR_0402
pins: 1, 2

## CRCW0402100KFKED
designator R?, comment 100kOhms
RES SMD 100 kOHMS 1% 1/16W 0402; Manufacturer: Vishay; Part Number: CRCW0402100KFKED; Temperature Coefficient: 100 PPM / C; Power Rating: 62,5 mW (1/16 W); Voltage Rating: 50 V; Library Control - Checked Footprint: Yes; Library Control - Person that Checked Footprint: Guilherme; Supplier 1: Mouser; Category: Thick Film Resistors - SMD; Price: 1=0,11, 10=0,04, 100=0,016(USD); Package / Case: 0402 (1005 Metric); Operating Temperature: - 55°C ~ 155°C; Value: 100kOhms; Tolerance: 1 %; Library Ref: Resistor; Resistor Type: Fixo; Size / Dimension: 1,0 L x 0,5 W x 0,35 H; Supplier Part Number 1: 71-CRCW0402-100K-E3; Library Control - Checked Schematic: Yes; Library Control - Last Update: 24/07/2021 11:34; Library Control - Person that Checked Schematic: Guilherme; Library Control - Person that did the Last Update Footprint: Guilherme; Library Control - Person that did the Last Update Schematic: Guilherme; ComponentLink1Description: Mouser Link; ComponentLink1URL: https://br.mouser.com/ProductDetail/Vishay-Dale/CRCW0402100KFKED?qs=OlqPY1CiralZGKRwQ4Glcg%3D%3D; ComponentLink2Description: Datasheet; ComponentLink2URL: https://br.mouser.com/datasheet/2/427/dcrcwe3-1762152.pdf
footprint RESC1005X40N
pins: 1, 2